# Altium footprint library MyPcbLib.PcbLib: 66 footprints (part 4 of 5)
Each footprint in its own frame and in the unit in brackets; x right, y up, seen from the top. Pads: shape width x height; smd on the part's side, far side on the other; paste and mask are expansions set on the pad; w line width, h text height; cw(c..) or ccw(c..) is an arc to the next point about the centre after c.
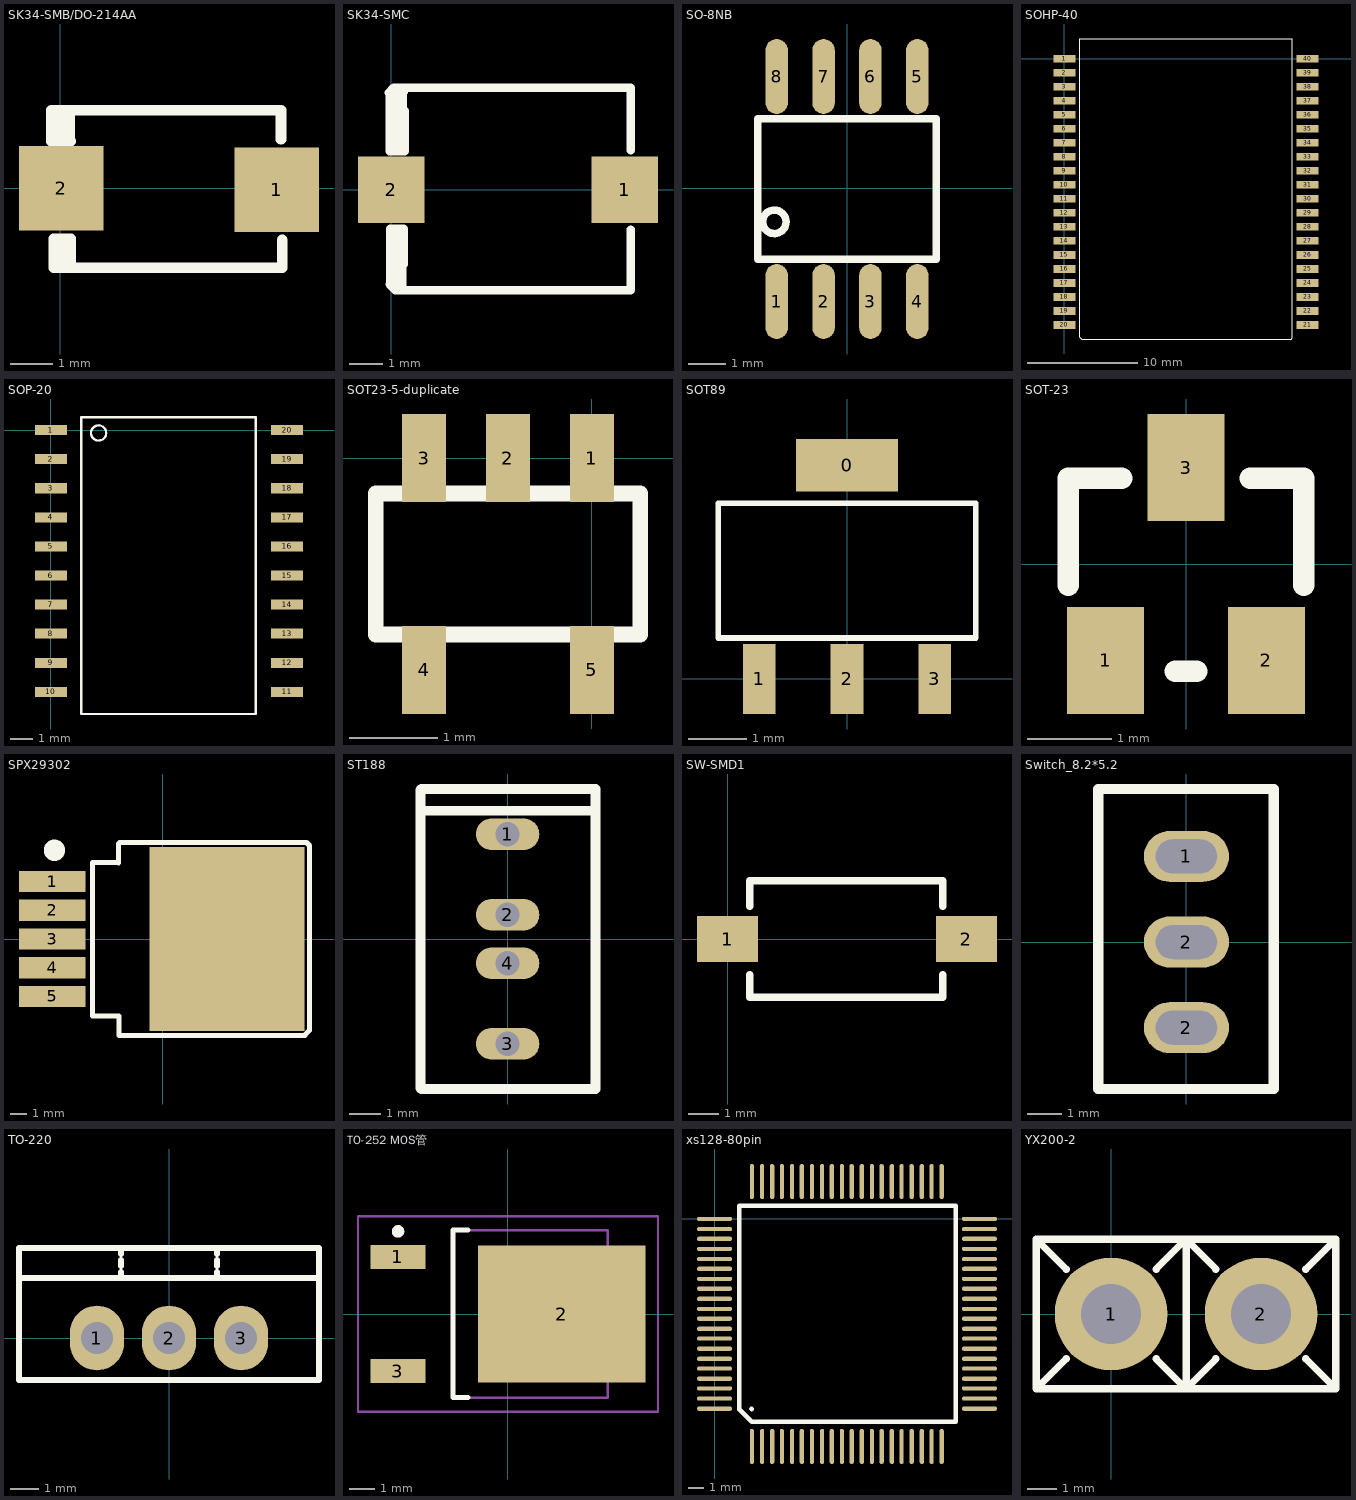
[diagram p3: the footprints below, top view; thin cyan lines are the x and y axes]

## SK34-SMB/DO-214AA [mm]
pads (2):
  rect 2x2 smd: 1(5.131,-0.025) 2(0.025,0)
Top Overlay:
  lines w0.2: -0.076,1.778 -0.076,1.295 0.051,1.168 0.051,1.702 0.178,1.829 0.229,1.829 0.254,1.854 0.254,1.118 ; 0.025,-1.88 0.025,-1.194
  lines w0.254: -0.203,1.829 -0.203,1.118 0.254,1.118 ; -0.203,1.854 5.232,1.854 5.232,1.168 ; 0.254,-1.829 0.254,-1.194 -0.152,-1.194 -0.152,-1.88 5.258,-1.88 5.258,-1.219
3D body: height 2.12, standoff -0.02, extent 0.064,-1.333 5.169,1.334

## SK34-SMC [mm]
pads (2):
  rect 2x2 smd: 1(7.036,0) 2(0,0)
Top Overlay:
  lines w0.2: -0.076,1.854 -0.076,2.921 ; -0.051,-2.845 -0.051,-1.651 0.152,-1.854 0.152,-3.023 0.356,-3.023 0.356,-2.108 ; 0.102,2.057 0.102,2.896 0.152,2.946 0.406,2.946 0.305,2.845 0.305,2.413 0.381,2.337 0.381,2.921 0.203,2.743
  lines w0.254: -0.076,2.921 0.076,3.073 7.214,3.073 7.214,1.194 ; -0.051,-2.845 0.127,-3.023 7.214,-3.023 7.214,-1.194 ; 0.203,-2.057 0.381,-2.235 0.381,-1.168 -0.025,-1.168 -0.025,-1.854 0.203,-2.083 0.203,-1.321 ; 0.356,2.362 -0.051,1.956 -0.051,1.168 0.406,1.168 0.406,2.388
  lines w0.3: 0.102,1.245 0.152,1.194 0.152,2.134

## SO-8NB [mil]
pads (8):
  oval 24x80 smd: 1(-75,-121) 2(-25,-121) 3(25,-121) 4(75,-121) 5(75,119) 6(25,119) 7(-25,119) 8(-75,119)
Top Overlay:
  circle w8: c-77.5,-36 r12.5
  lines w8: -95,-76 95,-76 95,74 -95,74 -95,-76
3D body: height 61.02, standoff -1.97, extent -96.91,-118.91 96,116.91

## SOHP-40 [mm]
pads (40):
  rect 2x0.7 smd: 1(0,0) 2(0,-1.27) 3(0,-2.54) 4(0,-3.81) 5(0,-5.08) 6(0,-6.35) 7(0,-7.62) 8(0,-8.89) 9(0,-10.16) 10(0,-11.43) 11(0,-12.7) 12(0,-13.97) 13(0,-15.24) 14(0,-16.51) 15(0,-17.78) 16(0,-19.05) 17(0,-20.32) 18(0,-21.59) 19(0,-22.86) 20(0,-24.13) 21(22.022,-24.13) 22(22.022,-22.86) 23(22.022,-21.59) 24(22.022,-20.32) 25(22.022,-19.05) 26(22.022,-17.78) 27(22.022,-16.51) 28(22.022,-15.24) 29(22.022,-13.97) 30(22.022,-12.7) 31(22.022,-11.43) 32(22.022,-10.16) 33(22.022,-8.89) 34(22.022,-7.62) 35(22.022,-6.35) 36(22.022,-5.08) 37(22.022,-3.81) 38(22.022,-2.54) 39(22.022,-1.27) 40(22.022,0)
Top Overlay:
  lines w0.1: 1.397,-25.248 1.397,1.778 20.625,1.778 20.625,-25.298 20.523,-25.4 1.549,-25.4 1.397,-25.248

## SOP-20 [mm]
height 3
pads (20):
  rect 1.4x0.44 smd: 1(0,0) 2(0,-1.27) 3(0,-2.54) 4(0,-3.81) 5(0,-5.08) 6(0,-6.35) 7(0,-7.62) 8(0,-8.89) 9(0,-10.16) 10(0,-11.43) 11(10.312,-11.43) 12(10.312,-10.16) 13(10.312,-8.89) 14(10.312,-7.62) 15(10.312,-6.35) 16(10.312,-5.08) 17(10.312,-3.81) 18(10.312,-2.54) 19(10.312,-1.27) 20(10.312,0)
Top Overlay:
  circle w0.1: c2.083,-0.127 r0.331
  lines w0.1: 1.321,-12.395 8.941,-12.395 8.941,0.559 1.321,0.559 1.321,-12.395

## SOT23-5-duplicate [mm]
pads (5):
  rect 0.5x1 smd: 1(0,0) 2(-0.95,0) 3(-1.9,0) 4(-1.9,-2.4) 5(0,-2.4)
Top Overlay:
  lines w0.178: -2.45,-2 0.55,-2 0.55,-0.4 -2.45,-0.4 -2.45,-2
3D body: height 1.09, standoff -0.01, extent -2.399,-2.599 0.5,0.201

## SOT89 [mm]
height 1.6
pads (4):
  rect 1.75x0.9 smd: 0(0,3.65)
  rect 0.56x1.2 smd: 1(-1.5,0) 2(0,0) 3(1.5,0)
Top Overlay:
  lines w0.1: -2.2,0.7 -2.2,3 2.2,3 2.2,0.7 -2.2,0.7
3D body: height 1.51, standoff 0, extent -2.25,-0.432 2.25,3.868

## SOT-23 [mil]
pads (3):
  rect 36x50 smd: 1(-37.5,-45) 2(37.5,-45) 3(0,45)
Top Overlay:
  lines w10: -55,-10 -55,40 -30,40 ; -5,-50 5,-50 ; 30,40 55,40 55,-10
3D body: height 39.37, standoff -0.79, extent -57.48,-47 57.48,50.48

## SPX29302 [mm]
pads (6):
  rect 3.95x1.25 smd: 1(-6.551,3.429) 2(-6.551,1.727) 3(-6.551,0.025) 4(-6.551,-1.677) 5(-6.551,-3.379)
  rect 9.2x10.9 smd: ""(3.799,0.025)
Top Overlay:
  circle w1: c-6.426,5.283 r0.125
  lines w0.3: -2.667,4.547 -4.166,4.547 -4.166,-4.547 -2.591,-4.547 -2.591,-5.69 ; -2.642,4.521 -2.642,5.69 ; -2.565,-5.69 8.407,-5.69 ; -2.565,5.74 8.509,5.74 8.687,5.563 8.687,-5.385 8.407,-5.664

## ST188 [mm]
pads (4):
  oval 2x1 hole 0.762: 1(0,3.302) 2(0,0.762) 3(0,-3.302) 4(0,-0.762)
Top Overlay:
  lines w0.3: -2.692,4.039 2.718,4.039 ; -2.743,-4.699 -2.718,-4.724 2.769,-4.724 2.769,4.724 -2.718,4.724 -2.743,4.699 -2.743,-4.699

## SW-SMD1 [mm]
pads (2):
  rect 2x1.5 smd: 1(0,0) 2(7.8,0)
Top Overlay:
  lines w0.254: 0.725,-1.168 0.725,-1.9 7.025,-1.9 7.025,-1.168 ; 0.725,1.067 0.725,1.9 7.025,1.9 7.025,1.067
3D body: height 2.5, standoff 0, extent -0.059,-1.945 7.831,1.905

## Switch_8.2*5.2 [mm]
pads (3):
  oval 2.5x1.5 hole 1 slot 1.8 at 0 deg: 1(0,2.515) 2(0,-2.515) 2(0,0)
Top Overlay:
  lines w0.3: -2.591,-4.318 2.565,-4.318 2.565,4.496 -2.591,4.496 -2.591,-4.318

## TO-220 [mil]
pads (3):
  oval 75x90 hole 45: 1(-100,0) 2(0,0) 3(100,0)
Top Overlay:
  lines w7.87: -66.67,83.33 -66.67,91.67 ; -66.67,100 -66.67,108.33 ; -66.67,116.67 -66.67,125 ; 66.67,83.33 66.67,91.67 ; 66.67,100 66.67,108.33 ; 66.67,116.67 66.67,125 ; -208.33,83.33 -208.33,125 208.33,125 208.33,83.33 ; -208.33,83.33 -208.33,-58.33 208.33,-58.33 208.33,83.33 ; -208.33,83.33 208.33,83.33
3D body: height 728.35, standoff -401.57, extent -205,-55 205.24,120.59

## TO-252 MOS管 [mm]
pads (3):
  rect 2.2x0.95 smd: 1(-4.4,2.28) 3(-4.4,-2.28)
  rect 6.7x5.5 smd: 2(2.15,0)
Top Overlay:
  circle w0.25: c-4.4,3.305 r0.125
  lines w0.2: -1.6,-3.35 -2.2,-3.35 -2.2,3.35 -1.6,3.35
Mechanical 13:
  lines w0.1: -2.2,-3.35 -2.2,3.35 4,3.35 4,-3.35 -2.2,-3.35
Mechanical 15:
  lines w0.1: -0.5,0 0.5,0 ; 0,-0.5 0,0.5 ; -6,-3.9 -6,3.9 6,3.9 6,-3.9 -6,-3.9
3D body: height 2.39, standoff -0.02, extent -4.9,-3.27 5.038,3.27

## xs128-80pin [mil]
pads (80):
  oval 11x90 smd: 1(96,-584) 2(122,-584) 3(148,-584) 4(173,-584) 5(199,-584) 6(224,-584) 7(250,-584) 8(276,-584) 9(301,-584) 10(327,-584) 11(352,-584) 12(378,-584) 13(404,-584) 14(429,-584) 15(455,-584) 16(480,-584) 17(506,-584) 18(532,-584) 19(557,-584) 20(583,-584) 41(583,96) 42(557,96) 43(532,96) 44(506,96) 45(480,96) 46(455,96) 47(429,96) 48(404,96) 49(378,96) 50(352,96) 51(327,96) 52(301,96) 53(276,96) 54(250,96) 55(224,96) 56(199,96) 57(173,96) 58(148,96) 59(122,96) 60(96,96)
  oval 90x11 smd: 21(680,-487) 22(680,-461) 23(680,-435) 24(680,-410) 25(680,-384) 26(680,-359) 27(680,-333) 28(680,-307) 29(680,-282) 30(680,-256) 31(680,-231) 32(680,-205) 33(680,-179) 34(680,-154) 35(680,-128) 36(680,-103) 37(680,-77) 38(680,-51) 39(680,-26) 40(680,0) 61(0,0) 62(0,-26) 63(0,-51) 64(0,-77) 65(0,-103) 66(0,-128) 67(0,-154) 68(0,-179) 69(0,-205) 70(0,-231) 71(0,-256) 72(0,-282) 73(0,-307) 74(0,-333) 75(0,-359) 76(0,-384) 77(0,-410) 78(0,-435) 79(0,-461) 80(0,-487)
Top Overlay:
  lines w11.81: 63,-489 63,-487 ; 95,-487 96,-488 ; 618,34 63,34 63,-488 96,-521 619,-521 619,34

## YX200-2 [mil]
pads (2):
  round 150 hole 80: 1(0,0) 2(200,0)
Top Overlay:
  lines w10: -60,-60 -100,-100 ; -60,60 -100,100 ; 60,-60 100,-100 ; 60,60 100,100 ; 140,-60 100,-100 ; 140,60 100,100 ; 260,-60 300,-100 ; 260,60 300,100 ; -100,-100 -100,100 ; -100,-100 300,-100 ; -100,100 300,100 ; 100,-100 100,100 ; 300,-100 300,100